# EAGLE library part BQ29209 (library Custom_Library)
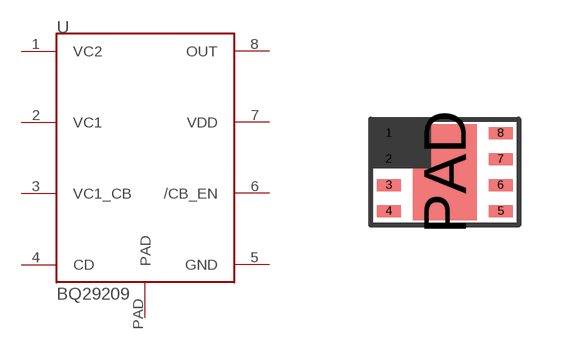
[diagram p2: symbol with the pads of VSON8; footprint VSON8]

Designator prefix U

## BQ29209  [VSON8]
1  VC2
2  VC1
3  VC1_CB
4  CD
5  GND
6  /CB_EN
7  VDD
8  OUT
PAD  PAD

## Footprint VSON8 (pad centres in mm)
smd 0.6 x 0.3: 1 -1.4,1; 2 -1.4,0.35; 3 -1.4,-0.3; 4 -1.4,-0.95; 5 1.4,-0.95; 6 1.4,-0.3; 7 1.4,0.35; 8 1.4,1
smd 1.6 x 2.4: PAD 0,0.025